# Altium integrated library TI Amplifiers and Linear Operational Amplifier High Speed.IntLib: 1100 symbols (part 12 of 44)
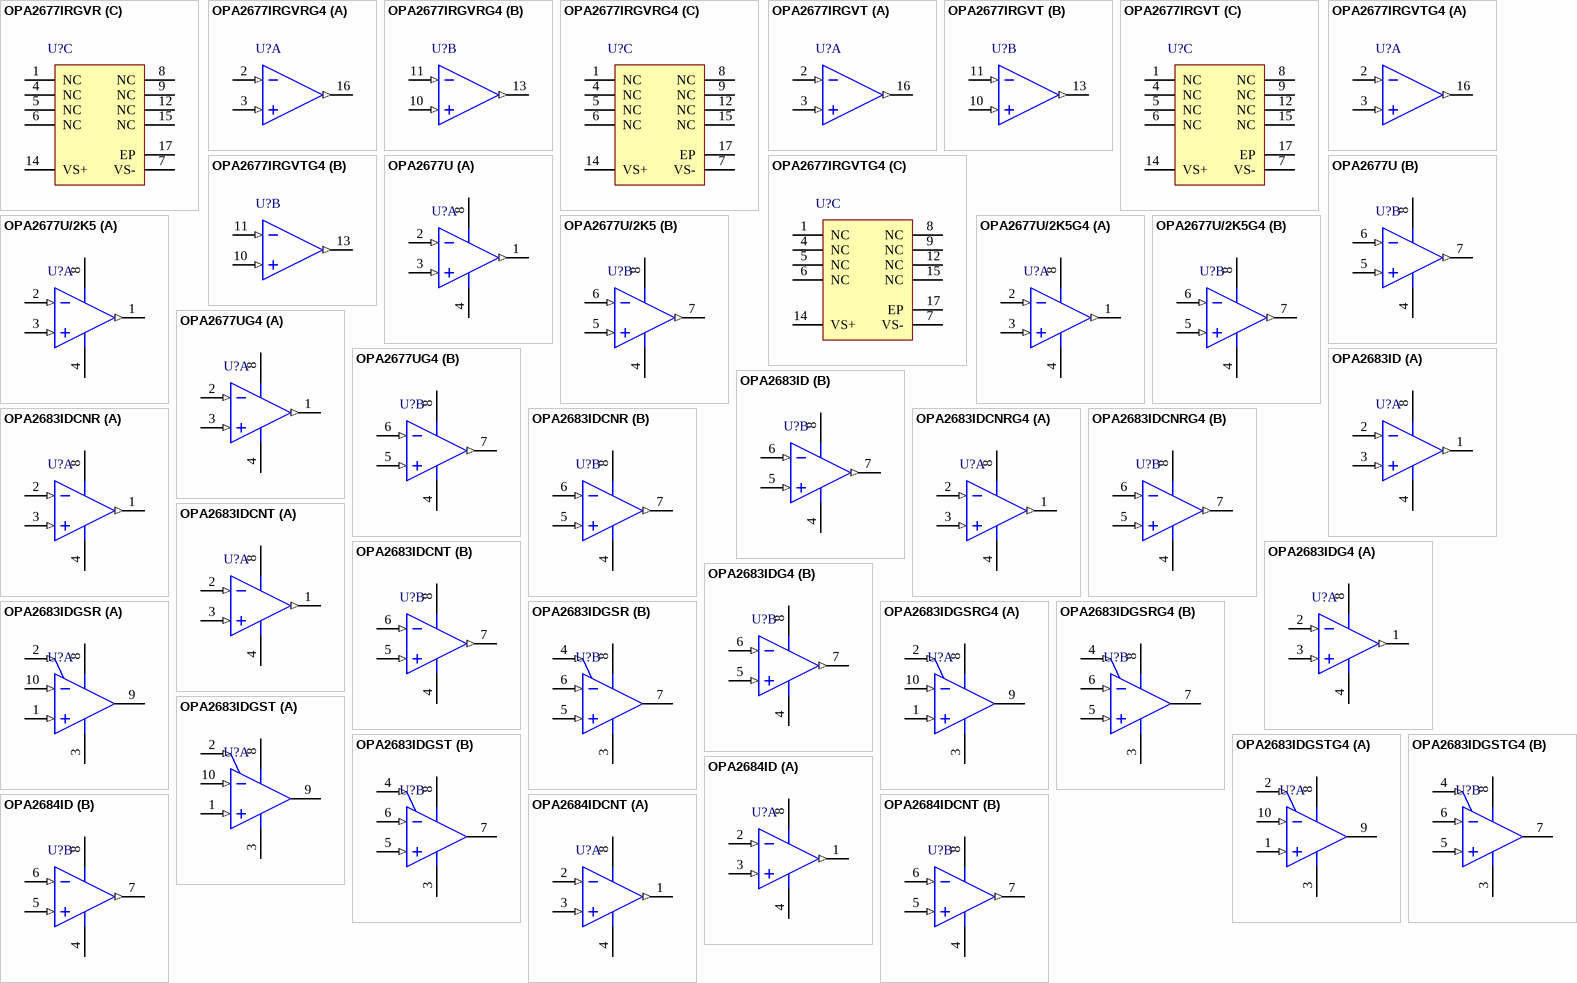
[diagram p62: symbols OPA2677IRGVR to OPA2684IDCNT]

## OPA2684IDCNT
designator U?
Dual, Low Power, Current Feedback Operational Amplifier, 5 to 12 V, -40 to 85 degC, 8-pin SOP (DCN8), Green (RoHS & no Sb/Br); Manufacturer: Texas Instruments; PartNumber: OPA2684IDCNT; 2nd Harmonic(dBc): 80; @ MHz: 5; Acl, min stable gain(V/V): 1; BW @ Acl(MHz): 210; Diff Gain(%): 0.04; Diff Phase(deg): 0.02; Iib(Max)(nA): 13000; Io(Typ)(mA): 120; Iq per channel(Max)(mA): 3.9; Number of Channels: 2; Settling Time (0.1%)(Typ)(ns): 11; Slew Rate(Typ)(V/us): 820; Sub Family: High Output Current Amplifier (>=50mA), High Speed Amplifier (>=50MHz); THD (Fc is 1 MHz)(Typ)(dB): -79; Vio(Max)(mV): 3.5; Vn at Flatband(Typ)(nV/rtHz): 3.7; Vs(Max)(V): 12; DatasheetVersion: SBOS239D; PackageVersion: 4202106/D, 11/2009; PackageReference: DCN8; PackageDescription: 8-Pin Plastic Small Outline, Body 1.6 x 2.9 mm, Pitch 0.65 mm; Supplier 1: Digi-Key; Supplier Part Number 1: 296-13994-2-ND; Supplier 2: Digi-Key; Supplier Part Number 2: 296-13994-1-ND; Supplier 3: Digi-Key; Supplier Part Number 3: 296-13994-6-ND; Supplier 4: Mouser; Supplier Part Number 4: 595-OPA2684IDCNT; 3rd Harmonic(dBc): 80; Eco-Plan: Green (RoHS & no Sb/Br); Vs(Min)(V): 5; Mounting Technology: Surface Mount; Code_JEDEC: MO-178; ComponentLink1Description: Manufacturer URL; ComponentLink1URL: http://www.ti.com/; ComponentLink2Description: Datasheet; ComponentLink2URL: http://www.ti.com/general/docs/lit/getliterature.tsp?genericPartNumber=OPA2684&fileType=pdf; ComponentLink3Description: Package Specification; ComponentLink3URL: http://www.ti.com/lit/ml/mpds099c/mpds099c.pdf
footprint TI-DCN8_N (SOP, 8-Leads, Body 2.9x1.6mm, Pitch 0.65mm, IPC Medium Density)
footprint TI-DCN8_L (SOP, 8-Leads, Body 2.9x1.6mm, Pitch 0.65mm, IPC High Density)
footprint TI-DCN8_M (SOP, 8-Leads, Body 2.9x1.6mm, Pitch 0.65mm, IPC Low Density)
pins on every part: 4 VS- (power), 8 VS+ (power)
part A pins: 1 OUT A (out), 2 IN A- (in), 3 IN A+ (in)
part B pins: 5 IN B+ (in), 6 IN B- (in), 7 OUT B (out)

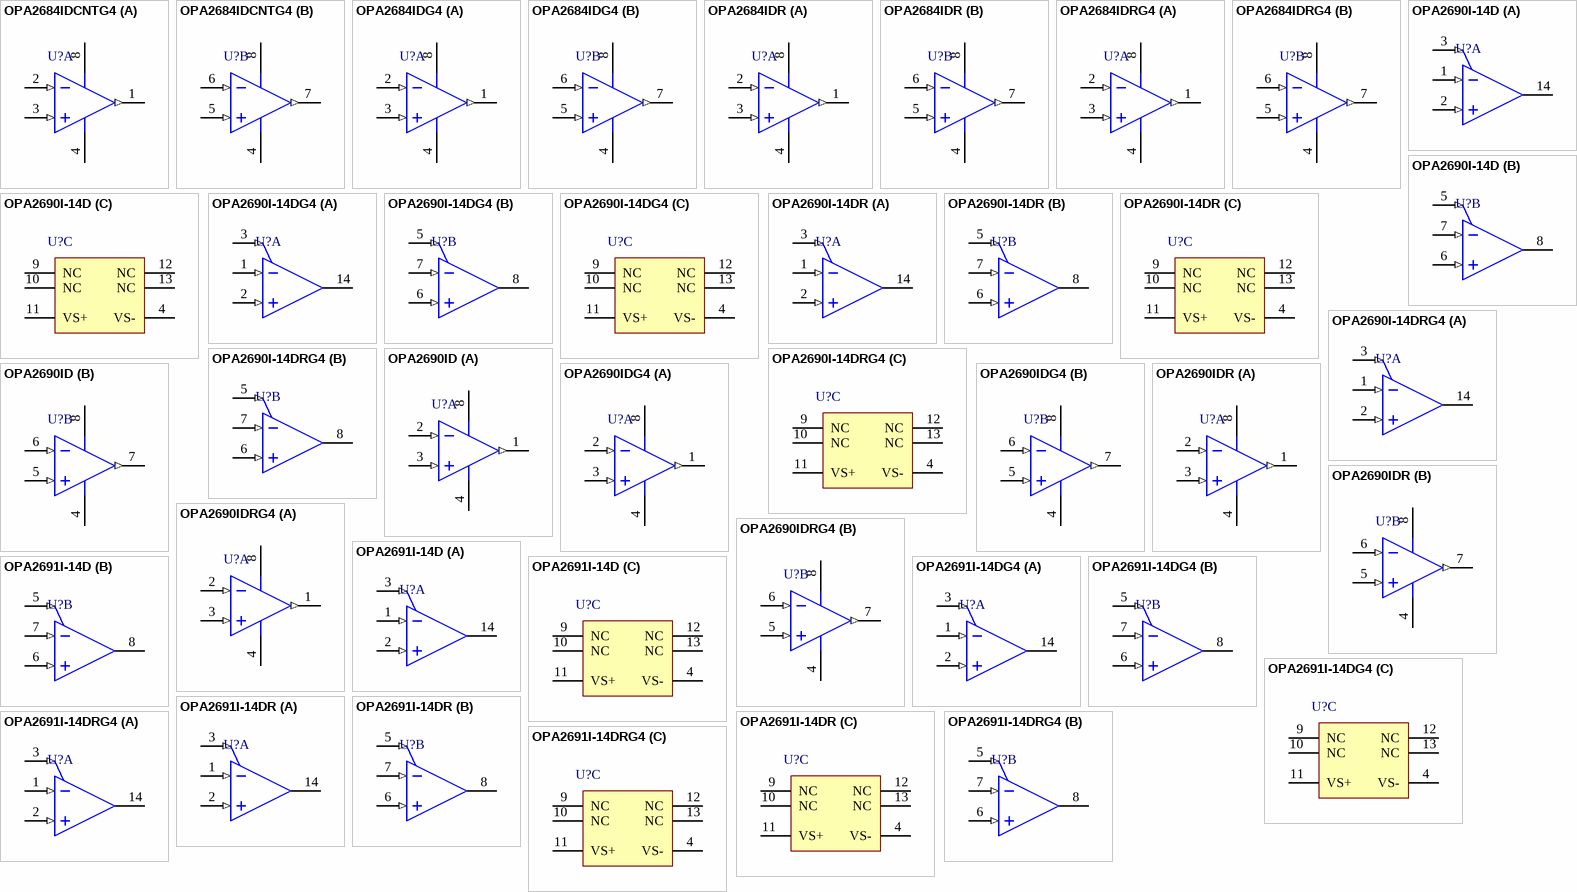
[diagram p11: symbols OPA2684IDCNTG4 to OPA2691I-14DRG4]

## OPA2684IDCNTG4
designator U?
Dual, Low Power, Current Feedback Operational Amplifier, 5 to 12 V, -40 to 85 degC, 8-pin SOP (DCN8), Green (RoHS & no Sb/Br); Manufacturer: Texas Instruments; PartNumber: OPA2684IDCNTG4; 2nd Harmonic(dBc): 80; @ MHz: 5; Acl, min stable gain(V/V): 1; BW @ Acl(MHz): 210; Diff Gain(%): 0.04; Diff Phase(deg): 0.02; Iib(Max)(nA): 13000; Io(Typ)(mA): 120; Iq per channel(Max)(mA): 3.9; Number of Channels: 2; Settling Time (0.1%)(Typ)(ns): 11; Slew Rate(Typ)(V/us): 820; Sub Family: High Output Current Amplifier (>=50mA), High Speed Amplifier (>=50MHz); THD (Fc is 1 MHz)(Typ)(dB): -79; Vio(Max)(mV): 3.5; Vn at Flatband(Typ)(nV/rtHz): 3.7; Vs(Max)(V): 12; DatasheetVersion: SBOS239D; PackageVersion: 4202106/D, 11/2009; PackageReference: DCN8; PackageDescription: 8-Pin Plastic Small Outline, Body 1.6 x 2.9 mm, Pitch 0.65 mm; Supplier 1: Digi-Key; Supplier Part Number 1: OPA2684IDCNTG4-ND; Supplier 2: Mouser; Supplier Part Number 2: 595-OPA2684IDCNTG4; 3rd Harmonic(dBc): 80; Eco-Plan: Green (RoHS & no Sb/Br); Vs(Min)(V): 5; Mounting Technology: Surface Mount; Code_JEDEC: MO-178; ComponentLink1Description: Manufacturer URL; ComponentLink1URL: http://www.ti.com/; ComponentLink2Description: Datasheet; ComponentLink2URL: http://www.ti.com/general/docs/lit/getliterature.tsp?genericPartNumber=OPA2684&fileType=pdf; ComponentLink3Description: Package Specification; ComponentLink3URL: http://www.ti.com/lit/ml/mpds099c/mpds099c.pdf
footprint TI-DCN8_N (SOP, 8-Leads, Body 2.9x1.6mm, Pitch 0.65mm, IPC Medium Density)
footprint TI-DCN8_L (SOP, 8-Leads, Body 2.9x1.6mm, Pitch 0.65mm, IPC High Density)
footprint TI-DCN8_M (SOP, 8-Leads, Body 2.9x1.6mm, Pitch 0.65mm, IPC Low Density)
pins on every part: 4 VS- (power), 8 VS+ (power)
part A pins: 1 OUT A (out), 2 IN A- (in), 3 IN A+ (in)
part B pins: 5 IN B+ (in), 6 IN B- (in), 7 OUT B (out)

## OPA2684IDG4
designator U?
Dual, Low Power, Current Feedback Operational Amplifier, 5 to 12 V, -40 to 85 degC, 8-pin SOIC (D8), Green (RoHS & no Sb/Br); Manufacturer: Texas Instruments; PartNumber: OPA2684IDG4; 2nd Harmonic(dBc): 80; @ MHz: 5; Acl, min stable gain(V/V): 1; BW @ Acl(MHz): 210; Diff Gain(%): 0.04; Diff Phase(deg): 0.02; Iib(Max)(nA): 13000; Io(Typ)(mA): 120; Iq per channel(Max)(mA): 3.9; Number of Channels: 2; Settling Time (0.1%)(Typ)(ns): 11; Slew Rate(Typ)(V/us): 820; Sub Family: High Output Current Amplifier (>=50mA), High Speed Amplifier (>=50MHz); THD (Fc is 1 MHz)(Typ)(dB): -79; Vio(Max)(mV): 3.5; Vn at Flatband(Typ)(nV/rtHz): 3.7; Vs(Max)(V): 12; DatasheetVersion: SBOS239D; PackageVersion: 4040047-3/M, 06/2011; PackageReference: D8; PackageDescription: 8-Pin Plastic Small Outline, Body 4.9 x 3.9 mm, Pitch 1.27 mm; Supplier 1: Digi-Key; Supplier Part Number 1: OPA2684IDG4-ND; Supplier 2: Mouser; Supplier Part Number 2: 595-OPA2684IDG4; 3rd Harmonic(dBc): 80; Eco-Plan: Green (RoHS & no Sb/Br); Vs(Min)(V): 5; Mounting Technology: Surface Mount; Code_JEDEC: MS-012; ComponentLink1Description: Manufacturer URL; ComponentLink1URL: http://www.ti.com/; ComponentLink2Description: Datasheet; ComponentLink2URL: http://www.ti.com/general/docs/lit/getliterature.tsp?genericPartNumber=OPA2684&fileType=pdf; ComponentLink3Description: Package Specification; ComponentLink3URL: http://www.ti.com/litv/pdf/msoi002j
footprint TI-D8_N (SOIC, 8-Leads, Body 4.9x3.9mm, Pitch 1.27mm, IPC Medium Density)
footprint TI-D8_L (SOIC, 8-Leads, Body 4.9x3.9mm, Pitch 1.27mm, IPC High Density)
footprint TI-D8_M (SOIC, 8-Leads, Body 4.9x3.9mm, Pitch 1.27mm, IPC Low Density)
pins on every part: 4 VS- (power), 8 VS+ (power)
part A pins: 1 OUT A (out), 2 IN A- (in), 3 IN A+ (in)
part B pins: 5 IN B+ (in), 6 IN B- (in), 7 OUT B (out)

## OPA2684IDR
designator U?
Dual, Low Power, Current Feedback Operational Amplifier, 5 to 12 V, -40 to 85 degC, 8-pin SOIC (D8), Green (RoHS & no Sb/Br); Manufacturer: Texas Instruments; PartNumber: OPA2684IDR; 2nd Harmonic(dBc): 80; @ MHz: 5; Acl, min stable gain(V/V): 1; BW @ Acl(MHz): 210; Diff Gain(%): 0.04; Diff Phase(deg): 0.02; Iib(Max)(nA): 13000; Io(Typ)(mA): 120; Iq per channel(Max)(mA): 3.9; Number of Channels: 2; Settling Time (0.1%)(Typ)(ns): 11; Slew Rate(Typ)(V/us): 820; Sub Family: High Output Current Amplifier (>=50mA), High Speed Amplifier (>=50MHz); THD (Fc is 1 MHz)(Typ)(dB): -79; Vio(Max)(mV): 3.5; Vn at Flatband(Typ)(nV/rtHz): 3.7; Vs(Max)(V): 12; DatasheetVersion: SBOS239D; PackageVersion: 4040047-3/M, 06/2011; PackageReference: D8; PackageDescription: 8-Pin Plastic Small Outline, Body 4.9 x 3.9 mm, Pitch 1.27 mm; Supplier 1: Digi-Key; Supplier Part Number 1: OPA2684IDR-ND; Supplier 2: Mouser; Supplier Part Number 2: 595-OPA2684IDR; 3rd Harmonic(dBc): 80; Eco-Plan: Green (RoHS & no Sb/Br); Vs(Min)(V): 5; Mounting Technology: Surface Mount; Code_JEDEC: MS-012; ComponentLink1Description: Manufacturer URL; ComponentLink1URL: http://www.ti.com/; ComponentLink2Description: Datasheet; ComponentLink2URL: http://www.ti.com/general/docs/lit/getliterature.tsp?genericPartNumber=OPA2684&fileType=pdf; ComponentLink3Description: Package Specification; ComponentLink3URL: http://www.ti.com/litv/pdf/msoi002j
footprint TI-D8_N (SOIC, 8-Leads, Body 4.9x3.9mm, Pitch 1.27mm, IPC Medium Density)
footprint TI-D8_L (SOIC, 8-Leads, Body 4.9x3.9mm, Pitch 1.27mm, IPC High Density)
footprint TI-D8_M (SOIC, 8-Leads, Body 4.9x3.9mm, Pitch 1.27mm, IPC Low Density)
pins on every part: 4 VS- (power), 8 VS+ (power)
part A pins: 1 OUT A (out), 2 IN A- (in), 3 IN A+ (in)
part B pins: 5 IN B+ (in), 6 IN B- (in), 7 OUT B (out)

## OPA2684IDRG4
designator U?
Dual, Low Power, Current Feedback Operational Amplifier, 5 to 12 V, -40 to 85 degC, 8-pin SOIC (D8), Green (RoHS & no Sb/Br); Manufacturer: Texas Instruments; PartNumber: OPA2684IDRG4; 2nd Harmonic(dBc): 67; 3rd Harmonic(dBc): 70; @ MHz: 5; Acl, min stable gain(V/V): 1; BW @ Acl(MHz): 250; Diff Gain(%): 0.04; Diff Phase(deg): 0.02; Iib(Max)(nA): 19500; Io(Typ)(mA): 120; Iq per channel(Max)(mA): 3.9; Number of Channels: 2; Slew Rate(Typ)(V/us): 750; Sub Family: High Output Current Amplifier (>=50mA), High Speed Amplifier (>=50MHz); Vio(Max)(mV): 4.6; Vn at Flatband(Typ)(nV/rtHz): 3.7; Vs(Max)(V): 12; DatasheetVersion: SBOS239D; PackageVersion: 4040047-3/M, 06/2011; PackageReference: D8; PackageDescription: 8-Pin Plastic Small Outline, Body 4.9 x 3.9 mm, Pitch 1.27 mm; Supplier 1: Digi-Key; Supplier Part Number 1: OPA2684IDRG4-ND; Supplier 2: Mouser; Supplier Part Number 2: 595-OPA2684IDRG4; Eco-Plan: Green (RoHS & no Sb/Br); Vs(Min)(V): 5; Mounting Technology: Surface Mount; Code_JEDEC: MS-012; ComponentLink1Description: Manufacturer URL; ComponentLink1URL: http://www.ti.com/; ComponentLink2Description: Datasheet; ComponentLink2URL: http://www.ti.com/general/docs/lit/getliterature.tsp?genericPartNumber=OPA2684&fileType=pdf; ComponentLink3Description: Package Specification; ComponentLink3URL: http://www.ti.com/litv/pdf/msoi002j
footprint TI-D8_N (SOIC, 8-Leads, Body 4.9x3.9mm, Pitch 1.27mm, IPC Medium Density)
footprint TI-D8_L (SOIC, 8-Leads, Body 4.9x3.9mm, Pitch 1.27mm, IPC High Density)
footprint TI-D8_M (SOIC, 8-Leads, Body 4.9x3.9mm, Pitch 1.27mm, IPC Low Density)
pins on every part: 4 VS- (power), 8 VS+ (power)
part A pins: 1 OUT A (out), 2 IN A- (in), 3 IN A+ (in)
part B pins: 5 IN B+ (in), 6 IN B- (in), 7 OUT B (out)

## OPA2690I-14D
designator U?
Dual Wideband, Voltage Feedback Operational Amplifier with Disable, 5 to 12 V, -40 to 85 degC, 14-pin SOIC (D14), Green (RoHS & no Sb/Br); Manufacturer: Texas Instruments; PartNumber: OPA2690I-14D; 2nd Harmonic(dBc): 77; 3rd Harmonic(dBc): 81; @ MHz: 5; Acl, min stable gain(V/V): 1; BW @ Acl(MHz): 500; Diff Gain(%): 0.06; Diff Phase(deg): 0.03; Iib(Max)(nA): 12000; Io(Typ)(mA): 190; Iq per channel(Max)(mA): 6.3; Number of Channels: 2; Settling Time (0.1%)(Typ)(ns): 8; Slew Rate(Typ)(V/us): 1800; Sub Family: High Output Current Amplifier (>=50mA), High Speed Amplifier (>=50MHz); THD (Fc is 1 MHz)(Typ)(dB): -80; Vio(Max)(mV): 4.5; Vn at Flatband(Typ)(nV/rtHz): 5.5; Vs(Max)(V): 12; DatasheetVersion: SBOS238G; PackageVersion: 4040047-5/M, 06/2011; PackageReference: D14; PackageDescription: 14-Pin Plastic Small Outline, Body 8.65 x 3.9 mm, Pitch 1.27 mm; Supplier 1: Digi-Key; Supplier Part Number 1: 296-13464-5-ND; Supplier 2: Newark; Supplier Part Number 2: 75C4794; Supplier 3: Mouser; Supplier Part Number 3: 595-OPA2690I-14D; Eco-Plan: Green (RoHS & no Sb/Br); Vs(Min)(V): 5; Mounting Technology: Surface Mount; Code_JEDEC: MS-012; ComponentLink1Description: Manufacturer URL; ComponentLink1URL: http://www.ti.com/; ComponentLink2Description: Datasheet; ComponentLink2URL: http://www.ti.com/general/docs/lit/getliterature.tsp?genericPartNumber=OPA2690&fileType=pdf; ComponentLink3Description: Package Specification; ComponentLink3URL: http://www.ti.com/lit/ml/mpds177g/mpds177g.pdf
footprint TI-D14_N (SOIC, 14-Leads, Body 8.65x3.9mm, Pitch 1.27mm, IPC Medium Density)
footprint TI-D14_L (SOIC, 14-Leads, Body 8.65x3.9mm, Pitch 1.27mm, IPC High Density)
footprint TI-D14_M (SOIC, 14-Leads, Body 8.65x3.9mm, Pitch 1.27mm, IPC Low Density)
part A pins: 1 IN A- (in), 2 IN A+ (in), 3 ~{DIS A} (in), 14 OUT A (hiz)
part B pins: 5 ~{DIS B} (in), 6 IN B+ (in), 7 IN B- (in), 8 OUT B (hiz)
part C pins: 4 VS- (power), 9 NC, 10 NC, 11 VS+ (power), 12 NC, 13 NC

## OPA2690I-14DG4
designator U?
Dual Wideband, Voltage Feedback Operational Amplifier with Disable, 5 to 12 V, -40 to 85 degC, 14-pin SOIC (D14), Green (RoHS & no Sb/Br); Manufacturer: Texas Instruments; PartNumber: OPA2690I-14DG4; 2nd Harmonic(dBc): 77; 3rd Harmonic(dBc): 81; @ MHz: 5; Acl, min stable gain(V/V): 1; BW @ Acl(MHz): 500; Diff Gain(%): 0.06; Diff Phase(deg): 0.03; Iib(Max)(nA): 12000; Io(Typ)(mA): 190; Iq per channel(Max)(mA): 6.3; Number of Channels: 2; Settling Time (0.1%)(Typ)(ns): 8; Slew Rate(Typ)(V/us): 1800; Sub Family: High Output Current Amplifier (>=50mA), High Speed Amplifier (>=50MHz); THD (Fc is 1 MHz)(Typ)(dB): -80; Vio(Max)(mV): 4.5; Vn at Flatband(Typ)(nV/rtHz): 5.5; Vs(Max)(V): 12; DatasheetVersion: SBOS238G; PackageVersion: 4040047-5/M, 06/2011; PackageReference: D14; PackageDescription: 14-Pin Plastic Small Outline, Body 8.65 x 3.9 mm, Pitch 1.27 mm; Supplier 1: Digi-Key; Supplier Part Number 1: OPA2690I-14DG4-ND; Supplier 2: Mouser; Supplier Part Number 2: 595-OPA2690I-14DG4; Eco-Plan: Green (RoHS & no Sb/Br); Vs(Min)(V): 5; Mounting Technology: Surface Mount; Code_JEDEC: MS-012; ComponentLink1Description: Manufacturer URL; ComponentLink1URL: http://www.ti.com/; ComponentLink2Description: Datasheet; ComponentLink2URL: http://www.ti.com/general/docs/lit/getliterature.tsp?genericPartNumber=OPA2690&fileType=pdf; ComponentLink3Description: Package Specification; ComponentLink3URL: http://www.ti.com/lit/ml/mpds177g/mpds177g.pdf
footprint TI-D14_N (SOIC, 14-Leads, Body 8.65x3.9mm, Pitch 1.27mm, IPC Medium Density)
footprint TI-D14_L (SOIC, 14-Leads, Body 8.65x3.9mm, Pitch 1.27mm, IPC High Density)
footprint TI-D14_M (SOIC, 14-Leads, Body 8.65x3.9mm, Pitch 1.27mm, IPC Low Density)
part A pins: 1 IN A- (in), 2 IN A+ (in), 3 ~{DIS A} (in), 14 OUT A (hiz)
part B pins: 5 ~{DIS B} (in), 6 IN B+ (in), 7 IN B- (in), 8 OUT B (hiz)
part C pins: 4 VS- (power), 9 NC, 10 NC, 11 VS+ (power), 12 NC, 13 NC

## OPA2690I-14DR
designator U?
Dual Wideband, Voltage Feedback Operational Amplifier with Disable, 5 to 12 V, -40 to 85 degC, 14-pin SOIC (D14), Green (RoHS & no Sb/Br); Manufacturer: Texas Instruments; PartNumber: OPA2690I-14DR; 2nd Harmonic(dBc): 77; 3rd Harmonic(dBc): 81; @ MHz: 5; Acl, min stable gain(V/V): 1; BW @ Acl(MHz): 500; Diff Gain(%): 0.06; Diff Phase(deg): 0.03; Iib(Max)(nA): 12000; Io(Typ)(mA): 190; Iq per channel(Max)(mA): 6.3; Number of Channels: 2; Settling Time (0.1%)(Typ)(ns): 8; Slew Rate(Typ)(V/us): 1800; Sub Family: High Output Current Amplifier (>=50mA), High Speed Amplifier (>=50MHz); THD (Fc is 1 MHz)(Typ)(dB): -80; Vio(Max)(mV): 4.5; Vn at Flatband(Typ)(nV/rtHz): 5.5; Vs(Max)(V): 12; DatasheetVersion: SBOS238G; PackageVersion: 4040047-5/M, 06/2011; PackageReference: D14; PackageDescription: 14-Pin Plastic Small Outline, Body 8.65 x 3.9 mm, Pitch 1.27 mm; Supplier 1: Digi-Key; Supplier Part Number 1: OPA2690I-14DR-ND; Supplier 2: Mouser; Supplier Part Number 2: 595-OPA2690I-14DR; Eco-Plan: Green (RoHS & no Sb/Br); Vs(Min)(V): 5; Mounting Technology: Surface Mount; Code_JEDEC: MS-012; ComponentLink1Description: Manufacturer URL; ComponentLink1URL: http://www.ti.com/; ComponentLink2Description: Datasheet; ComponentLink2URL: http://www.ti.com/general/docs/lit/getliterature.tsp?genericPartNumber=OPA2690&fileType=pdf; ComponentLink3Description: Package Specification; ComponentLink3URL: http://www.ti.com/lit/ml/mpds177g/mpds177g.pdf
footprint TI-D14_N (SOIC, 14-Leads, Body 8.65x3.9mm, Pitch 1.27mm, IPC Medium Density)
footprint TI-D14_L (SOIC, 14-Leads, Body 8.65x3.9mm, Pitch 1.27mm, IPC High Density)
footprint TI-D14_M (SOIC, 14-Leads, Body 8.65x3.9mm, Pitch 1.27mm, IPC Low Density)
part A pins: 1 IN A- (in), 2 IN A+ (in), 3 ~{DIS A} (in), 14 OUT A (hiz)
part B pins: 5 ~{DIS B} (in), 6 IN B+ (in), 7 IN B- (in), 8 OUT B (hiz)
part C pins: 4 VS- (power), 9 NC, 10 NC, 11 VS+ (power), 12 NC, 13 NC

## OPA2690I-14DRG4
designator U?
Dual Wideband, Voltage Feedback Operational Amplifier with Disable, 5 to 12 V, -40 to 85 degC, 14-pin SOIC (D14), Green (RoHS & no Sb/Br); Manufacturer: Texas Instruments; PartNumber: OPA2690I-14DRG4; 2nd Harmonic(dBc): 77; 3rd Harmonic(dBc): 81; @ MHz: 5; Acl, min stable gain(V/V): 1; BW @ Acl(MHz): 500; Diff Gain(%): 0.06; Diff Phase(deg): 0.03; Iib(Max)(nA): 12000; Io(Typ)(mA): 190; Iq per channel(Max)(mA): 6.3; Number of Channels: 2; Settling Time (0.1%)(Typ)(ns): 8; Slew Rate(Typ)(V/us): 1800; Sub Family: High Output Current Amplifier (>=50mA), High Speed Amplifier (>=50MHz); THD (Fc is 1 MHz)(Typ)(dB): -80; Vio(Max)(mV): 4.5; Vn at Flatband(Typ)(nV/rtHz): 5.5; Vs(Max)(V): 12; DatasheetVersion: SBOS238G; PackageVersion: 4040047-5/M, 06/2011; PackageReference: D14; PackageDescription: 14-Pin Plastic Small Outline, Body 8.65 x 3.9 mm, Pitch 1.27 mm; Supplier 1: Digi-Key; Supplier Part Number 1: OPA2690I-14DRG4-ND; Supplier 2: Mouser; Supplier Part Number 2: 595-OPA2690I-14DRG4; Eco-Plan: Green (RoHS & no Sb/Br); Vs(Min)(V): 5; Mounting Technology: Surface Mount; Code_JEDEC: MS-012; ComponentLink1Description: Manufacturer URL; ComponentLink1URL: http://www.ti.com/; ComponentLink2Description: Datasheet; ComponentLink2URL: http://www.ti.com/general/docs/lit/getliterature.tsp?genericPartNumber=OPA2690&fileType=pdf; ComponentLink3Description: Package Specification; ComponentLink3URL: http://www.ti.com/lit/ml/mpds177g/mpds177g.pdf
footprint TI-D14_N (SOIC, 14-Leads, Body 8.65x3.9mm, Pitch 1.27mm, IPC Medium Density)
footprint TI-D14_L (SOIC, 14-Leads, Body 8.65x3.9mm, Pitch 1.27mm, IPC High Density)
footprint TI-D14_M (SOIC, 14-Leads, Body 8.65x3.9mm, Pitch 1.27mm, IPC Low Density)
part A pins: 1 IN A- (in), 2 IN A+ (in), 3 ~{DIS A} (in), 14 OUT A (hiz)
part B pins: 5 ~{DIS B} (in), 6 IN B+ (in), 7 IN B- (in), 8 OUT B (hiz)
part C pins: 4 VS- (power), 9 NC, 10 NC, 11 VS+ (power), 12 NC, 13 NC

## OPA2690ID
designator U?
Dual Wideband, Voltage Feedback Operational Amplifier with Disable, 5 to 12 V, -40 to 85 degC, 8-pin SOIC (D8), Green (RoHS & no Sb/Br); Manufacturer: Texas Instruments; PartNumber: OPA2690ID; 2nd Harmonic(dBc): 77; 3rd Harmonic(dBc): 81; @ MHz: 5; Acl, min stable gain(V/V): 1; BW @ Acl(MHz): 500; Diff Gain(%): 0.06; Diff Phase(deg): 0.03; Iib(Max)(nA): 12000; Io(Typ)(mA): 190; Iq per channel(Max)(mA): 6.3; Number of Channels: 2; Settling Time (0.1%)(Typ)(ns): 8; Slew Rate(Typ)(V/us): 1800; Sub Family: High Output Current Amplifier (>=50mA), High Speed Amplifier (>=50MHz); THD (Fc is 1 MHz)(Typ)(dB): -80; Vio(Max)(mV): 4.5; Vn at Flatband(Typ)(nV/rtHz): 5.5; Vs(Max)(V): 12; DatasheetVersion: SBOS238G; PackageVersion: 4040047-3/M, 06/2011; PackageReference: D8; PackageDescription: 8-Pin Plastic Small Outline, Body 4.9 x 3.9 mm, Pitch 1.27 mm; Supplier 1: Digi-Key; Supplier Part Number 1: 296-13465-5-ND; Supplier 2: Newark; Supplier Part Number 2: 75C4796; Supplier 3: Mouser; Supplier Part Number 3: 595-OPA2690ID; Eco-Plan: Green (RoHS & no Sb/Br); Vs(Min)(V): 5; Mounting Technology: Surface Mount; Code_JEDEC: MS-012; ComponentLink1Description: Manufacturer URL; ComponentLink1URL: http://www.ti.com/; ComponentLink2Description: Datasheet; ComponentLink2URL: http://www.ti.com/general/docs/lit/getliterature.tsp?genericPartNumber=OPA2690&fileType=pdf; ComponentLink3Description: Package Specification; ComponentLink3URL: http://www.ti.com/litv/pdf/msoi002j
footprint TI-D8_N (SOIC, 8-Leads, Body 4.9x3.9mm, Pitch 1.27mm, IPC Medium Density)
footprint TI-D8_L (SOIC, 8-Leads, Body 4.9x3.9mm, Pitch 1.27mm, IPC High Density)
footprint TI-D8_M (SOIC, 8-Leads, Body 4.9x3.9mm, Pitch 1.27mm, IPC Low Density)
pins on every part: 4 VS- (power), 8 VS+ (power)
part A pins: 1 OUT A (out), 2 IN A- (in), 3 IN A+ (in)
part B pins: 5 IN B+ (in), 6 IN B- (in), 7 OUT B (out)

## OPA2690IDG4
designator U?
Dual Wideband, Voltage Feedback Operational Amplifier with Disable, 5 to 12 V, -40 to 85 degC, 8-pin SOIC (D8), Green (RoHS & no Sb/Br); Manufacturer: Texas Instruments; PartNumber: OPA2690IDG4; 2nd Harmonic(dBc): 77; 3rd Harmonic(dBc): 81; @ MHz: 5; Acl, min stable gain(V/V): 1; BW @ Acl(MHz): 500; Diff Gain(%): 0.06; Diff Phase(deg): 0.03; Iib(Max)(nA): 12000; Io(Typ)(mA): 190; Iq per channel(Max)(mA): 6.3; Number of Channels: 2; Settling Time (0.1%)(Typ)(ns): 8; Slew Rate(Typ)(V/us): 1800; Sub Family: High Output Current Amplifier (>=50mA), High Speed Amplifier (>=50MHz); THD (Fc is 1 MHz)(Typ)(dB): -80; Vio(Max)(mV): 4.5; Vn at Flatband(Typ)(nV/rtHz): 5.5; Vs(Max)(V): 12; DatasheetVersion: SBOS238G; PackageVersion: 4040047-3/M, 06/2011; PackageReference: D8; PackageDescription: 8-Pin Plastic Small Outline, Body 4.9 x 3.9 mm, Pitch 1.27 mm; Supplier 1: Digi-Key; Supplier Part Number 1: OPA2690IDG4-ND; Supplier 2: Farnell; Supplier Part Number 2: 1207108; Supplier 3: Newark; Supplier Part Number 3: 97K6818; Supplier 4: Mouser; Supplier Part Number 4: 595-OPA2690IDG4; Eco-Plan: Green (RoHS & no Sb/Br); Vs(Min)(V): 5; Mounting Technology: Surface Mount; Code_JEDEC: MS-012; ComponentLink1Description: Manufacturer URL; ComponentLink1URL: http://www.ti.com/; ComponentLink2Description: Datasheet; ComponentLink2URL: http://www.ti.com/general/docs/lit/getliterature.tsp?genericPartNumber=OPA2690&fileType=pdf; ComponentLink3Description: Package Specification; ComponentLink3URL: http://www.ti.com/litv/pdf/msoi002j
footprint TI-D8_N (SOIC, 8-Leads, Body 4.9x3.9mm, Pitch 1.27mm, IPC Medium Density)
footprint TI-D8_L (SOIC, 8-Leads, Body 4.9x3.9mm, Pitch 1.27mm, IPC High Density)
footprint TI-D8_M (SOIC, 8-Leads, Body 4.9x3.9mm, Pitch 1.27mm, IPC Low Density)
pins on every part: 4 VS- (power), 8 VS+ (power)
part A pins: 1 OUT A (out), 2 IN A- (in), 3 IN A+ (in)
part B pins: 5 IN B+ (in), 6 IN B- (in), 7 OUT B (out)

## OPA2690IDR
designator U?
Dual Wideband, Voltage Feedback Operational Amplifier with Disable, 5 to 12 V, -40 to 85 degC, 8-pin SOIC (D8), Green (RoHS & no Sb/Br); Manufacturer: Texas Instruments; PartNumber: OPA2690IDR; 2nd Harmonic(dBc): 77; 3rd Harmonic(dBc): 81; @ MHz: 5; Acl, min stable gain(V/V): 1; BW @ Acl(MHz): 500; Diff Gain(%): 0.06; Diff Phase(deg): 0.03; Iib(Max)(nA): 12000; Io(Typ)(mA): 190; Iq per channel(Max)(mA): 6.3; Number of Channels: 2; Settling Time (0.1%)(Typ)(ns): 8; Slew Rate(Typ)(V/us): 1800; Sub Family: High Output Current Amplifier (>=50mA), High Speed Amplifier (>=50MHz); THD (Fc is 1 MHz)(Typ)(dB): -80; Vio(Max)(mV): 4.5; Vn at Flatband(Typ)(nV/rtHz): 5.5; Vs(Max)(V): 12; DatasheetVersion: SBOS238G; PackageVersion: 4040047-3/M, 06/2011; PackageReference: D8; PackageDescription: 8-Pin Plastic Small Outline, Body 4.9 x 3.9 mm, Pitch 1.27 mm; Supplier 1: Digi-Key; Supplier Part Number 1: OPA2690IDR-ND; Supplier 2: Newark; Supplier Part Number 2: 75C4797; Supplier 3: Mouser; Supplier Part Number 3: 595-OPA2690IDR; Eco-Plan: Green (RoHS & no Sb/Br); Vs(Min)(V): 5; Mounting Technology: Surface Mount; Code_JEDEC: MS-012; ComponentLink1Description: Manufacturer URL; ComponentLink1URL: http://www.ti.com/; ComponentLink2Description: Datasheet; ComponentLink2URL: http://www.ti.com/general/docs/lit/getliterature.tsp?genericPartNumber=OPA2690&fileType=pdf; ComponentLink3Description: Package Specification; ComponentLink3URL: http://www.ti.com/litv/pdf/msoi002j
footprint TI-D8_N (SOIC, 8-Leads, Body 4.9x3.9mm, Pitch 1.27mm, IPC Medium Density)
footprint TI-D8_L (SOIC, 8-Leads, Body 4.9x3.9mm, Pitch 1.27mm, IPC High Density)
footprint TI-D8_M (SOIC, 8-Leads, Body 4.9x3.9mm, Pitch 1.27mm, IPC Low Density)
pins on every part: 4 VS- (power), 8 VS+ (power)
part A pins: 1 OUT A (out), 2 IN A- (in), 3 IN A+ (in)
part B pins: 5 IN B+ (in), 6 IN B- (in), 7 OUT B (out)

## OPA2690IDRG4
designator U?
Dual Wideband, Voltage Feedback Operational Amplifier with Disable, 5 to 12 V, -40 to 85 degC, 8-pin SOIC (D8), Green (RoHS & no Sb/Br); Manufacturer: Texas Instruments; PartNumber: OPA2690IDRG4; 2nd Harmonic(dBc): 68; 3rd Harmonic(dBc): 70; @ MHz: 5; Acl, min stable gain(V/V): 1; BW @ Acl(MHz): 500; Diff Gain(%): 0.06; Diff Phase(deg): 0.03; Iib(Max)(nA): 13000; Io(Typ)(mA): 190; Iq per channel(Max)(mA): 6.3; Number of Channels: 2; Settling Time (0.1%)(Typ)(ns): 8; Slew Rate(Typ)(V/us): 1800; Sub Family: High Output Current Amplifier (>=50mA), High Speed Amplifier (>=50MHz); THD (Fc is 1 MHz)(Typ)(dB): -80; Vio(Max)(mV): 5.2; Vn at Flatband(Typ)(nV/rtHz): 5.5; Vs(Max)(V): 12; DatasheetVersion: SBOS238G; PackageVersion: 4040047-3/M, 06/2011; PackageReference: D8; PackageDescription: 8-Pin Plastic Small Outline, Body 4.9 x 3.9 mm, Pitch 1.27 mm; Supplier 1: Digi-Key; Supplier Part Number 1: OPA2690IDRG4-ND; Supplier 2: Mouser; Supplier Part Number 2: 595-OPA2690IDRG4; Eco-Plan: Green (RoHS & no Sb/Br); Vs(Min)(V): 5; Mounting Technology: Surface Mount; Code_JEDEC: MS-012; ComponentLink1Description: Manufacturer URL; ComponentLink1URL: http://www.ti.com/; ComponentLink2Description: Datasheet; ComponentLink2URL: http://www.ti.com/general/docs/lit/getliterature.tsp?genericPartNumber=OPA2690&fileType=pdf; ComponentLink3Description: Package Specification; ComponentLink3URL: http://www.ti.com/litv/pdf/msoi002j
footprint TI-D8_N (SOIC, 8-Leads, Body 4.9x3.9mm, Pitch 1.27mm, IPC Medium Density)
footprint TI-D8_L (SOIC, 8-Leads, Body 4.9x3.9mm, Pitch 1.27mm, IPC High Density)
footprint TI-D8_M (SOIC, 8-Leads, Body 4.9x3.9mm, Pitch 1.27mm, IPC Low Density)
pins on every part: 4 VS- (power), 8 VS+ (power)
part A pins: 1 OUT A (out), 2 IN A- (in), 3 IN A+ (in)
part B pins: 5 IN B+ (in), 6 IN B- (in), 7 OUT B (out)

## OPA2691I-14D
designator U?
Dual Wideband Current Feedback Operational Amplifier with Disable, 5 to 12 V, -40 to 85 degC, 14-pin SOIC (D14), Green (RoHS & no Sb/Br); Manufacturer: Texas Instruments; PartNumber: OPA2691I-14D; 2nd Harmonic(dBc): 79; 3rd Harmonic(dBc): 93; @ MHz: 5; Acl, min stable gain(V/V): 1; BW @ Acl(MHz): 280; Diff Gain(%): 0.07; Diff Phase(deg): 0.02; Iib(Max)(nA): 45000; Io(Typ)(mA): 190; Iq per channel(Max)(mA): 5.75; Number of Channels: 2; Settling Time (0.1%)(Typ)(ns): 8; Slew Rate(Typ)(V/us): 2100; Sub Family: High Output Current Amplifier (>=50mA), High Speed Amplifier (>=50MHz); THD (Fc is 1 MHz)(Typ)(dB): -80; Vio(Max)(mV): 3; Vn at Flatband(Typ)(nV/rtHz): 1.7; Vs(Max)(V): 12; DatasheetVersion: SBOS224D; PackageVersion: 4040047-5/M, 06/2011; PackageReference: D14; PackageDescription: 14-Pin Plastic Small Outline, Body 8.65 x 3.9 mm, Pitch 1.27 mm; Supplier 1: Digi-Key; Supplier Part Number 1: OPA2691I-14D-ND; Supplier 2: Mouser; Supplier Part Number 2: 595-OPA2691I-14D; Eco-Plan: Green (RoHS & no Sb/Br); Vs(Min)(V): 5; Mounting Technology: Surface Mount; Code_JEDEC: MS-012; ComponentLink1Description: Manufacturer URL; ComponentLink1URL: http://www.ti.com/; ComponentLink2Description: Datasheet; ComponentLink2URL: http://www.ti.com/general/docs/lit/getliterature.tsp?genericPartNumber=OPA2691&fileType=pdf; ComponentLink3Description: Package Specification; ComponentLink3URL: http://www.ti.com/lit/ml/mpds177g/mpds177g.pdf
footprint TI-D14_N (SOIC, 14-Leads, Body 8.65x3.9mm, Pitch 1.27mm, IPC Medium Density)
footprint TI-D14_L (SOIC, 14-Leads, Body 8.65x3.9mm, Pitch 1.27mm, IPC High Density)
footprint TI-D14_M (SOIC, 14-Leads, Body 8.65x3.9mm, Pitch 1.27mm, IPC Low Density)
part A pins: 1 IN A- (in), 2 IN A+ (in), 3 ~{DIS A} (in), 14 OUT A (hiz)
part B pins: 5 ~{DIS B} (in), 6 IN B+ (in), 7 IN B- (in), 8 OUT B (hiz)
part C pins: 4 VS- (power), 9 NC, 10 NC, 11 VS+ (power), 12 NC, 13 NC

## OPA2691I-14DG4
designator U?
Dual Wideband Current Feedback Operational Amplifier with Disable, 5 to 12 V, -40 to 85 degC, 14-pin SOIC (D14), Green (RoHS & no Sb/Br); Manufacturer: Texas Instruments; PartNumber: OPA2691I-14DG4; 2nd Harmonic(dBc): 79; 3rd Harmonic(dBc): 93; @ MHz: 5; Acl, min stable gain(V/V): 1; BW @ Acl(MHz): 280; Diff Gain(%): 0.07; Diff Phase(deg): 0.02; Iib(Max)(nA): 45000; Io(Typ)(mA): 190; Iq per channel(Max)(mA): 5.75; Number of Channels: 2; Settling Time (0.1%)(Typ)(ns): 8; Slew Rate(Typ)(V/us): 2100; Sub Family: High Output Current Amplifier (>=50mA), High Speed Amplifier (>=50MHz); THD (Fc is 1 MHz)(Typ)(dB): -80; Vio(Max)(mV): 3; Vn at Flatband(Typ)(nV/rtHz): 1.7; Vs(Max)(V): 12; DatasheetVersion: SBOS224D; PackageVersion: 4040047-5/M, 06/2011; PackageReference: D14; PackageDescription: 14-Pin Plastic Small Outline, Body 8.65 x 3.9 mm, Pitch 1.27 mm; Supplier 1: Digi-Key; Supplier Part Number 1: OPA2691I-14DG4-ND; Supplier 2: Mouser; Supplier Part Number 2: 595-OPA2691I-14DG4; Eco-Plan: Green (RoHS & no Sb/Br); Vs(Min)(V): 5; Mounting Technology: Surface Mount; Code_JEDEC: MS-012; ComponentLink1Description: Manufacturer URL; ComponentLink1URL: http://www.ti.com/; ComponentLink2Description: Datasheet; ComponentLink2URL: http://www.ti.com/general/docs/lit/getliterature.tsp?genericPartNumber=OPA2691&fileType=pdf; ComponentLink3Description: Package Specification; ComponentLink3URL: http://www.ti.com/lit/ml/mpds177g/mpds177g.pdf
footprint TI-D14_N (SOIC, 14-Leads, Body 8.65x3.9mm, Pitch 1.27mm, IPC Medium Density)
footprint TI-D14_L (SOIC, 14-Leads, Body 8.65x3.9mm, Pitch 1.27mm, IPC High Density)
footprint TI-D14_M (SOIC, 14-Leads, Body 8.65x3.9mm, Pitch 1.27mm, IPC Low Density)
part A pins: 1 IN A- (in), 2 IN A+ (in), 3 ~{DIS A} (in), 14 OUT A (hiz)
part B pins: 5 ~{DIS B} (in), 6 IN B+ (in), 7 IN B- (in), 8 OUT B (hiz)
part C pins: 4 VS- (power), 9 NC, 10 NC, 11 VS+ (power), 12 NC, 13 NC

## OPA2691I-14DR
designator U?
Dual Wideband Current Feedback Operational Amplifier with Disable, 5 to 12 V, -40 to 85 degC, 14-pin SOIC (D14), Green (RoHS & no Sb/Br); Manufacturer: Texas Instruments; PartNumber: OPA2691I-14DR; 2nd Harmonic(dBc): 79; 3rd Harmonic(dBc): 93; @ MHz: 5; Acl, min stable gain(V/V): 1; BW @ Acl(MHz): 280; Diff Gain(%): 0.07; Diff Phase(deg): 0.02; Iib(Max)(nA): 45000; Io(Typ)(mA): 190; Iq per channel(Max)(mA): 5.75; Number of Channels: 2; Settling Time (0.1%)(Typ)(ns): 8; Slew Rate(Typ)(V/us): 2100; Sub Family: High Output Current Amplifier (>=50mA), High Speed Amplifier (>=50MHz); THD (Fc is 1 MHz)(Typ)(dB): -80; Vio(Max)(mV): 3; Vn at Flatband(Typ)(nV/rtHz): 1.7; Vs(Max)(V): 12; DatasheetVersion: SBOS224D; PackageVersion: 4040047-5/M, 06/2011; PackageReference: D14; PackageDescription: 14-Pin Plastic Small Outline, Body 8.65 x 3.9 mm, Pitch 1.27 mm; Supplier 1: Digi-Key; Supplier Part Number 1: OPA2691I-14DR-ND; Supplier 2: Mouser; Supplier Part Number 2: 595-OPA2691I-14DR; Eco-Plan: Green (RoHS & no Sb/Br); Vs(Min)(V): 5; Mounting Technology: Surface Mount; Code_JEDEC: MS-012; ComponentLink1Description: Manufacturer URL; ComponentLink1URL: http://www.ti.com/; ComponentLink2Description: Datasheet; ComponentLink2URL: http://www.ti.com/general/docs/lit/getliterature.tsp?genericPartNumber=OPA2691&fileType=pdf; ComponentLink3Description: Package Specification; ComponentLink3URL: http://www.ti.com/lit/ml/mpds177g/mpds177g.pdf
footprint TI-D14_N (SOIC, 14-Leads, Body 8.65x3.9mm, Pitch 1.27mm, IPC Medium Density)
footprint TI-D14_L (SOIC, 14-Leads, Body 8.65x3.9mm, Pitch 1.27mm, IPC High Density)
footprint TI-D14_M (SOIC, 14-Leads, Body 8.65x3.9mm, Pitch 1.27mm, IPC Low Density)
part A pins: 1 IN A- (in), 2 IN A+ (in), 3 ~{DIS A} (in), 14 OUT A (hiz)
part B pins: 5 ~{DIS B} (in), 6 IN B+ (in), 7 IN B- (in), 8 OUT B (hiz)
part C pins: 4 VS- (power), 9 NC, 10 NC, 11 VS+ (power), 12 NC, 13 NC

## OPA2691I-14DRG4
designator U?
Dual Wideband Current Feedback Operational Amplifier with Disable, 5 to 12 V, -40 to 85 degC, 14-pin SOIC (D14), Green (RoHS & no Sb/Br); Manufacturer: Texas Instruments; PartNumber: OPA2691I-14DRG4; 2nd Harmonic(dBc): 79; 3rd Harmonic(dBc): 93; @ MHz: 5; Acl, min stable gain(V/V): 1; BW @ Acl(MHz): 280; Diff Gain(%): 0.07; Diff Phase(deg): 0.02; Iib(Max)(nA): 45000; Io(Typ)(mA): 190; Iq per channel(Max)(mA): 5.75; Number of Channels: 2; Settling Time (0.1%)(Typ)(ns): 8; Slew Rate(Typ)(V/us): 2100; Sub Family: High Output Current Amplifier (>=50mA), High Speed Amplifier (>=50MHz); THD (Fc is 1 MHz)(Typ)(dB): -80; Vio(Max)(mV): 3; Vn at Flatband(Typ)(nV/rtHz): 1.7; Vs(Max)(V): 12; DatasheetVersion: SBOS224D; PackageVersion: 4040047-5/M, 06/2011; PackageReference: D14; PackageDescription: 14-Pin Plastic Small Outline, Body 8.65 x 3.9 mm, Pitch 1.27 mm; Supplier 1: Digi-Key; Supplier Part Number 1: OPA2691I-14DRG4-ND; Supplier 2: Mouser; Supplier Part Number 2: 595-OPA2691I-14DRG4; Eco-Plan: Green (RoHS & no Sb/Br); Vs(Min)(V): 5; Mounting Technology: Surface Mount; Code_JEDEC: MS-012; ComponentLink1Description: Manufacturer URL; ComponentLink1URL: http://www.ti.com/; ComponentLink2Description: Datasheet; ComponentLink2URL: http://www.ti.com/general/docs/lit/getliterature.tsp?genericPartNumber=OPA2691&fileType=pdf; ComponentLink3Description: Package Specification; ComponentLink3URL: http://www.ti.com/lit/ml/mpds177g/mpds177g.pdf
footprint TI-D14_N (SOIC, 14-Leads, Body 8.65x3.9mm, Pitch 1.27mm, IPC Medium Density)
footprint TI-D14_L (SOIC, 14-Leads, Body 8.65x3.9mm, Pitch 1.27mm, IPC High Density)
footprint TI-D14_M (SOIC, 14-Leads, Body 8.65x3.9mm, Pitch 1.27mm, IPC Low Density)
part A pins: 1 IN A- (in), 2 IN A+ (in), 3 ~{DIS A} (in), 14 OUT A (hiz)
part B pins: 5 ~{DIS B} (in), 6 IN B+ (in), 7 IN B- (in), 8 OUT B (hiz)
part C pins: 4 VS- (power), 9 NC, 10 NC, 11 VS+ (power), 12 NC, 13 NC

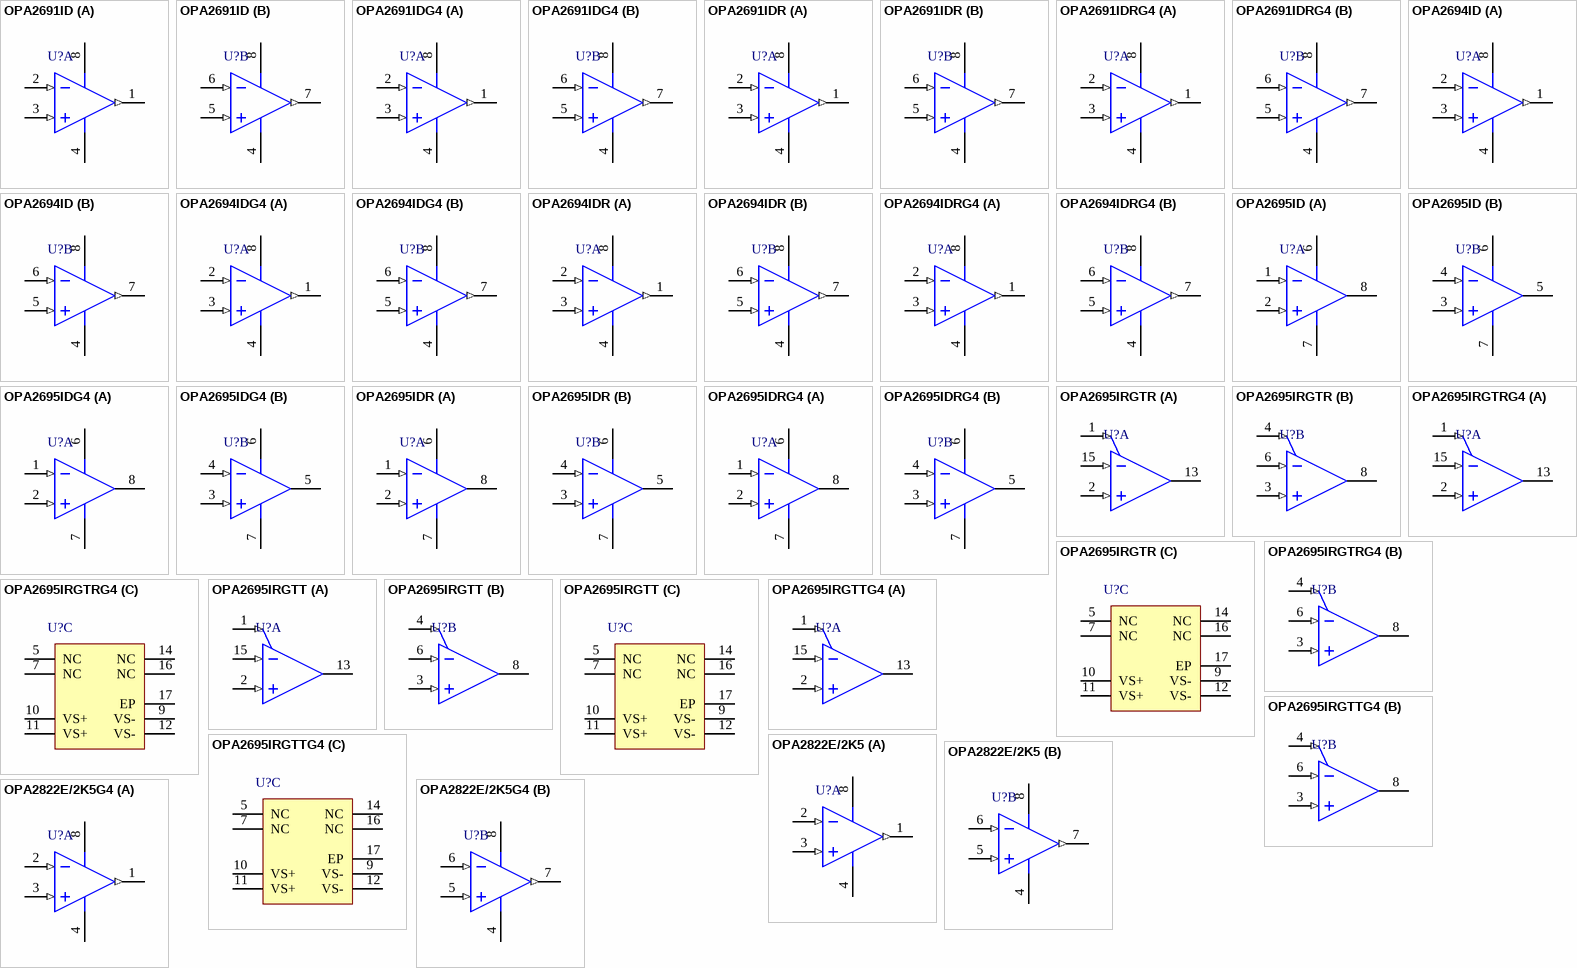
[diagram p12: symbols OPA2691ID to OPA2822E/2K5G4]

## OPA2691ID
designator U?
Dual Wideband Current Feedback Operational Amplifier with Disable, 5 to 12 V, -40 to 85 degC, 8-pin SOIC (D8), Green (RoHS & no Sb/Br); Manufacturer: Texas Instruments; PartNumber: OPA2691ID; 2nd Harmonic(dBc): 79; 3rd Harmonic(dBc): 93; @ MHz: 5; Acl, min stable gain(V/V): 1; BW @ Acl(MHz): 280; Diff Gain(%): 0.07; Diff Phase(deg): 0.02; Iib(Max)(nA): 40000; Io(Typ)(mA): 190; Iq per channel(Max)(mA): 5.75; Number of Channels: 2; Settling Time (0.1%)(Typ)(ns): 8; Slew Rate(Typ)(V/us): 2100; Sub Family: High Output Current Amplifier (>=50mA), High Speed Amplifier (>=50MHz); THD (Fc is 1 MHz)(Typ)(dB): -80; Vio(Max)(mV): 3; Vn at Flatband(Typ)(nV/rtHz): 1.7; Vs(Max)(V): 12; DatasheetVersion: SBOS224D; PackageVersion: 4040047-3/M, 06/2011; PackageReference: D8; PackageDescription: 8-Pin Plastic Small Outline, Body 4.9 x 3.9 mm, Pitch 1.27 mm; Supplier 1: Digi-Key; Supplier Part Number 1: OPA2691ID-ND; Supplier 2: Farnell; Supplier Part Number 2: 8468044; Supplier 3: Newark; Supplier Part Number 3: 75C4800; Supplier 4: Mouser; Supplier Part Number 4: 595-OPA2691ID; Eco-Plan: Green (RoHS & no Sb/Br); Vs(Min)(V): 5; Mounting Technology: Surface Mount; Code_JEDEC: MS-012; ComponentLink1Description: Manufacturer URL; ComponentLink1URL: http://www.ti.com/; ComponentLink2Description: Datasheet; ComponentLink2URL: http://www.ti.com/general/docs/lit/getliterature.tsp?genericPartNumber=OPA2691&fileType=pdf; ComponentLink3Description: Package Specification; ComponentLink3URL: http://www.ti.com/litv/pdf/msoi002j
footprint TI-D8_N (SOIC, 8-Leads, Body 4.9x3.9mm, Pitch 1.27mm, IPC Medium Density)
footprint TI-D8_L (SOIC, 8-Leads, Body 4.9x3.9mm, Pitch 1.27mm, IPC High Density)
footprint TI-D8_M (SOIC, 8-Leads, Body 4.9x3.9mm, Pitch 1.27mm, IPC Low Density)
pins on every part: 4 VS- (power), 8 VS+ (power)
part A pins: 1 OUT A (out), 2 IN A- (in), 3 IN A+ (in)
part B pins: 5 IN B+ (in), 6 IN B- (in), 7 OUT B (out)

## OPA2691IDG4
designator U?
Dual Wideband Current Feedback Operational Amplifier with Disable, 5 to 12 V, -40 to 85 degC, 8-pin SOIC (D8), Green (RoHS & no Sb/Br); Manufacturer: Texas Instruments; PartNumber: OPA2691IDG4; 2nd Harmonic(dBc): 79; 3rd Harmonic(dBc): 93; @ MHz: 5; Acl, min stable gain(V/V): 1; BW @ Acl(MHz): 280; Diff Gain(%): 0.07; Diff Phase(deg): 0.02; Iib(Max)(nA): 40000; Io(Typ)(mA): 190; Iq per channel(Max)(mA): 5.75; Number of Channels: 2; Settling Time (0.1%)(Typ)(ns): 8; Slew Rate(Typ)(V/us): 2100; Sub Family: High Output Current Amplifier (>=50mA), High Speed Amplifier (>=50MHz); THD (Fc is 1 MHz)(Typ)(dB): -80; Vio(Max)(mV): 3; Vn at Flatband(Typ)(nV/rtHz): 1.7; Vs(Max)(V): 12; DatasheetVersion: SBOS224D; PackageVersion: 4040047-3/M, 06/2011; PackageReference: D8; PackageDescription: 8-Pin Plastic Small Outline, Body 4.9 x 3.9 mm, Pitch 1.27 mm; Supplier 1: Digi-Key; Supplier Part Number 1: OPA2691IDG4-ND; Supplier 2: Mouser; Supplier Part Number 2: 595-OPA2691IDG4; Eco-Plan: Green (RoHS & no Sb/Br); Vs(Min)(V): 5; Mounting Technology: Surface Mount; Code_JEDEC: MS-012; ComponentLink1Description: Manufacturer URL; ComponentLink1URL: http://www.ti.com/; ComponentLink2Description: Datasheet; ComponentLink2URL: http://www.ti.com/general/docs/lit/getliterature.tsp?genericPartNumber=OPA2691&fileType=pdf; ComponentLink3Description: Package Specification; ComponentLink3URL: http://www.ti.com/litv/pdf/msoi002j
footprint TI-D8_N (SOIC, 8-Leads, Body 4.9x3.9mm, Pitch 1.27mm, IPC Medium Density)
footprint TI-D8_L (SOIC, 8-Leads, Body 4.9x3.9mm, Pitch 1.27mm, IPC High Density)
footprint TI-D8_M (SOIC, 8-Leads, Body 4.9x3.9mm, Pitch 1.27mm, IPC Low Density)
pins on every part: 4 VS- (power), 8 VS+ (power)
part A pins: 1 OUT A (out), 2 IN A- (in), 3 IN A+ (in)
part B pins: 5 IN B+ (in), 6 IN B- (in), 7 OUT B (out)

## OPA2691IDR
designator U?
Dual Wideband Current Feedback Operational Amplifier with Disable, 5 to 12 V, -40 to 85 degC, 8-pin SOIC (D8), Green (RoHS & no Sb/Br); Manufacturer: Texas Instruments; PartNumber: OPA2691IDR; 2nd Harmonic(dBc): 79; 3rd Harmonic(dBc): 93; @ MHz: 5; Acl, min stable gain(V/V): 1; BW @ Acl(MHz): 280; Diff Gain(%): 0.07; Diff Phase(deg): 0.02; Iib(Max)(nA): 40000; Io(Typ)(mA): 190; Iq per channel(Max)(mA): 5.75; Number of Channels: 2; Settling Time (0.1%)(Typ)(ns): 8; Slew Rate(Typ)(V/us): 2100; Sub Family: High Output Current Amplifier (>=50mA), High Speed Amplifier (>=50MHz); THD (Fc is 1 MHz)(Typ)(dB): -80; Vio(Max)(mV): 3; Vn at Flatband(Typ)(nV/rtHz): 1.7; Vs(Max)(V): 12; DatasheetVersion: SBOS224D; PackageVersion: 4040047-3/M, 06/2011; PackageReference: D8; PackageDescription: 8-Pin Plastic Small Outline, Body 4.9 x 3.9 mm, Pitch 1.27 mm; Supplier 1: Digi-Key; Supplier Part Number 1: OPA2691IDR-ND; Supplier 2: Mouser; Supplier Part Number 2: 595-OPA2691IDR; Eco-Plan: Green (RoHS & no Sb/Br); Vs(Min)(V): 5; Mounting Technology: Surface Mount; Code_JEDEC: MS-012; ComponentLink1Description: Manufacturer URL; ComponentLink1URL: http://www.ti.com/; ComponentLink2Description: Datasheet; ComponentLink2URL: http://www.ti.com/general/docs/lit/getliterature.tsp?genericPartNumber=OPA2691&fileType=pdf; ComponentLink3Description: Package Specification; ComponentLink3URL: http://www.ti.com/litv/pdf/msoi002j
footprint TI-D8_N (SOIC, 8-Leads, Body 4.9x3.9mm, Pitch 1.27mm, IPC Medium Density)
footprint TI-D8_L (SOIC, 8-Leads, Body 4.9x3.9mm, Pitch 1.27mm, IPC High Density)
footprint TI-D8_M (SOIC, 8-Leads, Body 4.9x3.9mm, Pitch 1.27mm, IPC Low Density)
pins on every part: 4 VS- (power), 8 VS+ (power)
part A pins: 1 OUT A (out), 2 IN A- (in), 3 IN A+ (in)
part B pins: 5 IN B+ (in), 6 IN B- (in), 7 OUT B (out)

## OPA2691IDRG4
designator U?
Dual Wideband Current Feedback Operational Amplifier with Disable, 5 to 12 V, -40 to 85 degC, 8-pin SOIC (D8), Green (RoHS & no Sb/Br); Manufacturer: Texas Instruments; PartNumber: OPA2691IDRG4; 2nd Harmonic(dBc): 79; 3rd Harmonic(dBc): 93; @ MHz: 5; Acl, min stable gain(V/V): 1; BW @ Acl(MHz): 280; Diff Gain(%): 0.07; Diff Phase(deg): 0.02; Iib(Max)(nA): 40000; Io(Typ)(mA): 190; Iq per channel(Max)(mA): 5.75; Number of Channels: 2; Settling Time (0.1%)(Typ)(ns): 8; Slew Rate(Typ)(V/us): 2100; Sub Family: High Output Current Amplifier (>=50mA), High Speed Amplifier (>=50MHz); THD (Fc is 1 MHz)(Typ)(dB): -80; Vio(Max)(mV): 3; Vn at Flatband(Typ)(nV/rtHz): 1.7; Vs(Max)(V): 12; DatasheetVersion: SBOS224D; PackageVersion: 4040047-3/M, 06/2011; PackageReference: D8; PackageDescription: 8-Pin Plastic Small Outline, Body 4.9 x 3.9 mm, Pitch 1.27 mm; Supplier 1: Digi-Key; Supplier Part Number 1: OPA2691IDRG4-ND; Supplier 2: Mouser; Supplier Part Number 2: 595-OPA2691IDRG4; Eco-Plan: Green (RoHS & no Sb/Br); Vs(Min)(V): 5; Mounting Technology: Surface Mount; Code_JEDEC: MS-012; ComponentLink1Description: Manufacturer URL; ComponentLink1URL: http://www.ti.com/; ComponentLink2Description: Datasheet; ComponentLink2URL: http://www.ti.com/general/docs/lit/getliterature.tsp?genericPartNumber=OPA2691&fileType=pdf; ComponentLink3Description: Package Specification; ComponentLink3URL: http://www.ti.com/litv/pdf/msoi002j
footprint TI-D8_N (SOIC, 8-Leads, Body 4.9x3.9mm, Pitch 1.27mm, IPC Medium Density)
footprint TI-D8_L (SOIC, 8-Leads, Body 4.9x3.9mm, Pitch 1.27mm, IPC High Density)
footprint TI-D8_M (SOIC, 8-Leads, Body 4.9x3.9mm, Pitch 1.27mm, IPC Low Density)
pins on every part: 4 VS- (power), 8 VS+ (power)
part A pins: 1 OUT A (out), 2 IN A- (in), 3 IN A+ (in)
part B pins: 5 IN B+ (in), 6 IN B- (in), 7 OUT B (out)

## OPA2694ID
designator U?
Dual, Wideband, Low Power, Current Feedback Operational Amplifier, 7 to 12.6 V, -40 to 85 degC, 8-pin SOIC (D8), Green (RoHS & no Sb/Br); Manufacturer: Texas Instruments; PartNumber: OPA2694ID; Acl, min stable gain(V/V): 1; BW @ Acl(MHz): 1300; Iib(Max)(nA): 20; Io(Typ)(mA): 70; Iq per channel(Max)(mA): 5.8; Number of Channels: 2; Slew Rate(Typ)(V/us): 1700; Sub Family: High Output Current Amplifier (>=50mA), High Speed Amplifier (>=50MHz); Vio(Max)(mV): 3.2; Vn at Flatband(Typ)(nV/rtHz): 2.1; Vs(Max)(V): 12.6; Vs(Min)(V): 7; DatasheetVersion: SBOS320C; PackageVersion: 4040047-3/M, 06/2011; PackageReference: D8; PackageDescription: 8-Pin Plastic Small Outline, Body 4.9 x 3.9 mm, Pitch 1.27 mm; Supplier 1: Digi-Key; Supplier Part Number 1: 296-17883-ND; Supplier 2: Farnell; Supplier Part Number 2: 1459577; Supplier 3: Newark; Supplier Part Number 3: 65J6218; Supplier 4: Mouser; Supplier Part Number 4: 595-OPA2694ID; Eco-Plan: Green (RoHS & no Sb/Br); Mounting Technology: Surface Mount; Code_JEDEC: MS-012; ComponentLink1Description: Manufacturer URL; ComponentLink1URL: http://www.ti.com/; ComponentLink2Description: Datasheet; ComponentLink2URL: http://www.ti.com/general/docs/lit/getliterature.tsp?genericPartNumber=OPA2694&fileType=pdf; ComponentLink3Description: Package Specification; ComponentLink3URL: http://www.ti.com/litv/pdf/msoi002j
footprint TI-D8_N (SOIC, 8-Leads, Body 4.9x3.9mm, Pitch 1.27mm, IPC Medium Density)
footprint TI-D8_L (SOIC, 8-Leads, Body 4.9x3.9mm, Pitch 1.27mm, IPC High Density)
footprint TI-D8_M (SOIC, 8-Leads, Body 4.9x3.9mm, Pitch 1.27mm, IPC Low Density)
pins on every part: 4 VS- (power), 8 VS+ (power)
part A pins: 1 OUT A (out), 2 IN A- (in), 3 IN A+ (in)
part B pins: 5 IN B+ (in), 6 IN B- (in), 7 OUT B (out)

## OPA2694IDG4
designator U?
Dual, Wideband, Low Power, Current Feedback Operational Amplifier, 7 to 12.6 V, -40 to 85 degC, 8-pin SOIC (D8), Green (RoHS & no Sb/Br); Manufacturer: Texas Instruments; PartNumber: OPA2694IDG4; Acl, min stable gain(V/V): 1; BW @ Acl(MHz): 1300; Iib(Max)(nA): 20; Io(Typ)(mA): 70; Iq per channel(Max)(mA): 5.8; Number of Channels: 2; Slew Rate(Typ)(V/us): 1700; Sub Family: High Output Current Amplifier (>=50mA), High Speed Amplifier (>=50MHz); Vio(Max)(mV): 3.2; Vn at Flatband(Typ)(nV/rtHz): 2.1; Vs(Max)(V): 12.6; Vs(Min)(V): 7; DatasheetVersion: SBOS320C; PackageVersion: 4040047-3/M, 06/2011; PackageReference: D8; PackageDescription: 8-Pin Plastic Small Outline, Body 4.9 x 3.9 mm, Pitch 1.27 mm; Supplier 1: Digi-Key; Supplier Part Number 1: OPA2694IDG4-ND; Supplier 2: Mouser; Supplier Part Number 2: 595-OPA2694IDG4; Eco-Plan: Green (RoHS & no Sb/Br); Mounting Technology: Surface Mount; Code_JEDEC: MS-012; ComponentLink1Description: Manufacturer URL; ComponentLink1URL: http://www.ti.com/; ComponentLink2Description: Datasheet; ComponentLink2URL: http://www.ti.com/general/docs/lit/getliterature.tsp?genericPartNumber=OPA2694&fileType=pdf; ComponentLink3Description: Package Specification; ComponentLink3URL: http://www.ti.com/litv/pdf/msoi002j
footprint TI-D8_N (SOIC, 8-Leads, Body 4.9x3.9mm, Pitch 1.27mm, IPC Medium Density)
footprint TI-D8_L (SOIC, 8-Leads, Body 4.9x3.9mm, Pitch 1.27mm, IPC High Density)
footprint TI-D8_M (SOIC, 8-Leads, Body 4.9x3.9mm, Pitch 1.27mm, IPC Low Density)
pins on every part: 4 VS- (power), 8 VS+ (power)
part A pins: 1 OUT A (out), 2 IN A- (in), 3 IN A+ (in)
part B pins: 5 IN B+ (in), 6 IN B- (in), 7 OUT B (out)

## OPA2694IDR
designator U?
Dual, Wideband, Low Power, Current Feedback Operational Amplifier, 7 to 12.6 V, -40 to 85 degC, 8-pin SOIC (D8), Green (RoHS & no Sb/Br); Manufacturer: Texas Instruments; PartNumber: OPA2694IDR; Acl, min stable gain(V/V): 1; BW @ Acl(MHz): 1300; Iib(Max)(nA): 20; Io(Typ)(mA): 70; Iq per channel(Max)(mA): 5.8; Number of Channels: 2; Slew Rate(Typ)(V/us): 1700; Sub Family: High Output Current Amplifier (>=50mA), High Speed Amplifier (>=50MHz); Vio(Max)(mV): 3.2; Vn at Flatband(Typ)(nV/rtHz): 2.1; Vs(Max)(V): 12.6; Vs(Min)(V): 7; DatasheetVersion: SBOS320C; PackageVersion: 4040047-3/M, 06/2011; PackageReference: D8; PackageDescription: 8-Pin Plastic Small Outline, Body 4.9 x 3.9 mm, Pitch 1.27 mm; Supplier 1: Digi-Key; Supplier Part Number 1: OPA2694IDR-ND; Supplier 2: Mouser; Supplier Part Number 2: 595-OPA2694IDR; Eco-Plan: Green (RoHS & no Sb/Br); Mounting Technology: Surface Mount; Code_JEDEC: MS-012; ComponentLink1Description: Manufacturer URL; ComponentLink1URL: http://www.ti.com/; ComponentLink2Description: Datasheet; ComponentLink2URL: http://www.ti.com/general/docs/lit/getliterature.tsp?genericPartNumber=OPA2694&fileType=pdf; ComponentLink3Description: Package Specification; ComponentLink3URL: http://www.ti.com/litv/pdf/msoi002j
footprint TI-D8_N (SOIC, 8-Leads, Body 4.9x3.9mm, Pitch 1.27mm, IPC Medium Density)
footprint TI-D8_L (SOIC, 8-Leads, Body 4.9x3.9mm, Pitch 1.27mm, IPC High Density)
footprint TI-D8_M (SOIC, 8-Leads, Body 4.9x3.9mm, Pitch 1.27mm, IPC Low Density)
pins on every part: 4 VS- (power), 8 VS+ (power)
part A pins: 1 OUT A (out), 2 IN A- (in), 3 IN A+ (in)
part B pins: 5 IN B+ (in), 6 IN B- (in), 7 OUT B (out)

## OPA2694IDRG4
designator U?
Dual, Wideband, Low Power, Current Feedback Operational Amplifier, 7 to 12.6 V, -40 to 85 degC, 8-pin SOIC (D8), Green (RoHS & no Sb/Br); Manufacturer: Texas Instruments; PartNumber: OPA2694IDRG4; 2nd Harmonic(dBc): 85; 3rd Harmonic(dBc): 72; Acl, min stable gain(V/V): 1; BW @ Acl(MHz): 1500; Diff Gain(%): 0.03; Diff Phase(deg): 0.015; Iib(Max)(nA): 40000; Io(Typ)(mA): 70; Iq per channel(Max)(mA): 5.8; Number of Channels: 2; Settling Time (0.1%)(Typ)(ns): 13; Slew Rate(Typ)(V/us): 1700; Sub Family: High Output Current Amplifier (>=50mA), High Speed Amplifier (>=50MHz); Vio(Max)(mV): 4.3; Vn at Flatband(Typ)(nV/rtHz): 2.1; Vs(Max)(V): 12.6; Vs(Min)(V): 7; DatasheetVersion: SBOS320C; PackageVersion: 4040047-3/M, 06/2011; PackageReference: D8; PackageDescription: 8-Pin Plastic Small Outline, Body 4.9 x 3.9 mm, Pitch 1.27 mm; Supplier 1: Digi-Key; Supplier Part Number 1: OPA2694IDRG4-ND; Supplier 2: Mouser; Supplier Part Number 2: 595-OPA2694IDRG4; Eco-Plan: Green (RoHS & no Sb/Br); Mounting Technology: Surface Mount; Code_JEDEC: MS-012; ComponentLink1Description: Manufacturer URL; ComponentLink1URL: http://www.ti.com/; ComponentLink2Description: Datasheet; ComponentLink2URL: http://www.ti.com/general/docs/lit/getliterature.tsp?genericPartNumber=OPA2694&fileType=pdf; ComponentLink3Description: Package Specification; ComponentLink3URL: http://www.ti.com/litv/pdf/msoi002j
footprint TI-D8_N (SOIC, 8-Leads, Body 4.9x3.9mm, Pitch 1.27mm, IPC Medium Density)
footprint TI-D8_L (SOIC, 8-Leads, Body 4.9x3.9mm, Pitch 1.27mm, IPC High Density)
footprint TI-D8_M (SOIC, 8-Leads, Body 4.9x3.9mm, Pitch 1.27mm, IPC Low Density)
pins on every part: 4 VS- (power), 8 VS+ (power)
part A pins: 1 OUT A (out), 2 IN A- (in), 3 IN A+ (in)
part B pins: 5 IN B+ (in), 6 IN B- (in), 7 OUT B (out)

## OPA2695ID
designator U?
Ultra-Wideband, Current-Feedback Operational Amplifier with Disable, 3.6 to 12 V, -40 to 85 degC, 8-pin SOIC (D8), Green (RoHS & no Sb/Br); Manufacturer: Texas Instruments; PartNumber: OPA2695ID; 2nd Harmonic(dBc): 78; 3rd Harmonic(dBc): 81; @ MHz: 10; Acl, min stable gain(V/V): 1; BW @ Acl(MHz): 1100; Diff Gain(%): 0.01; Diff Phase(deg): 0.05; Iib(Max)(nA): 30000; Io(Typ)(mA): 120; Iq per channel(Max)(mA): 13.4; Number of Channels: 2; Slew Rate(Typ)(V/us): 2900; Sub Family: High Output Current Amplifier (>=50mA), High Speed Amplifier (>=50MHz); Vio(Max)(mV): 3.5; Vn at Flatband(Typ)(nV/rtHz): 1.8; Vs(Max)(V): 12; Vs(Min)(V): 3.6; DatasheetVersion: SBOS354A; PackageVersion: 4040047-3/M, 06/2011; PackageReference: D8; PackageDescription: 8-Pin Plastic Small Outline, Body 4.9 x 3.9 mm, Pitch 1.27 mm; Supplier 1: Digi-Key; Supplier Part Number 1: 296-23387-5-ND; Supplier 2: Farnell; Supplier Part Number 2: 1754991; Supplier 3: Newark; Supplier Part Number 3: 50R5629; Supplier 4: Mouser; Supplier Part Number 4: 595-OPA2695ID; Eco-Plan: Green (RoHS & no Sb/Br); Settling Time (0.1%)(Typ)(ns): 10; Mounting Technology: Surface Mount; Code_JEDEC: MS-012; ComponentLink1Description: Manufacturer URL; ComponentLink1URL: http://www.ti.com/; ComponentLink2Description: Datasheet; ComponentLink2URL: http://www.ti.com/general/docs/lit/getliterature.tsp?genericPartNumber=OPA2695&fileType=pdf; ComponentLink3Description: Package Specification; ComponentLink3URL: http://www.ti.com/litv/pdf/msoi002j
footprint TI-D8_N (SOIC, 8-Leads, Body 4.9x3.9mm, Pitch 1.27mm, IPC Medium Density)
footprint TI-D8_L (SOIC, 8-Leads, Body 4.9x3.9mm, Pitch 1.27mm, IPC High Density)
footprint TI-D8_M (SOIC, 8-Leads, Body 4.9x3.9mm, Pitch 1.27mm, IPC Low Density)
pins on every part: 6 VS+ (power), 7 VS- (power)
part A pins: 1 IN A- (in), 2 IN A+ (in), 8 OUT A (hiz)
part B pins: 3 IN B+ (in), 4 IN B- (in), 5 OUT B (hiz)